# EAGLE library part PUMHXX (library nxp-ret)
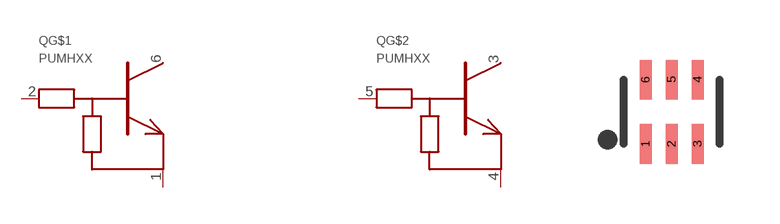
[diagram p0: symbol with the pads of SOT363; footprint SOT363]

Designator prefix Q; gates G$1=NPN-RET-R1-R2 G$2=NPN-RET-R1-R2

## PUMHXX  [SOT363]
1  G$1:E
2  G$1:B
3  G$2:C
4  G$2:E
5  G$2:B
6  G$1:C

## Footprint SOT363 (pad centres in mm)
smd 0.3 x 0.99: 1 -0.65,-0.8; 2 0,-0.8; 3 0.65,-0.8; 4 0.65,0.81; 5 0,0.81; 6 -0.65,0.81